# Altium schematic symbol library carrot_lib.SchLib: 176 symbols (part 3 of 3)
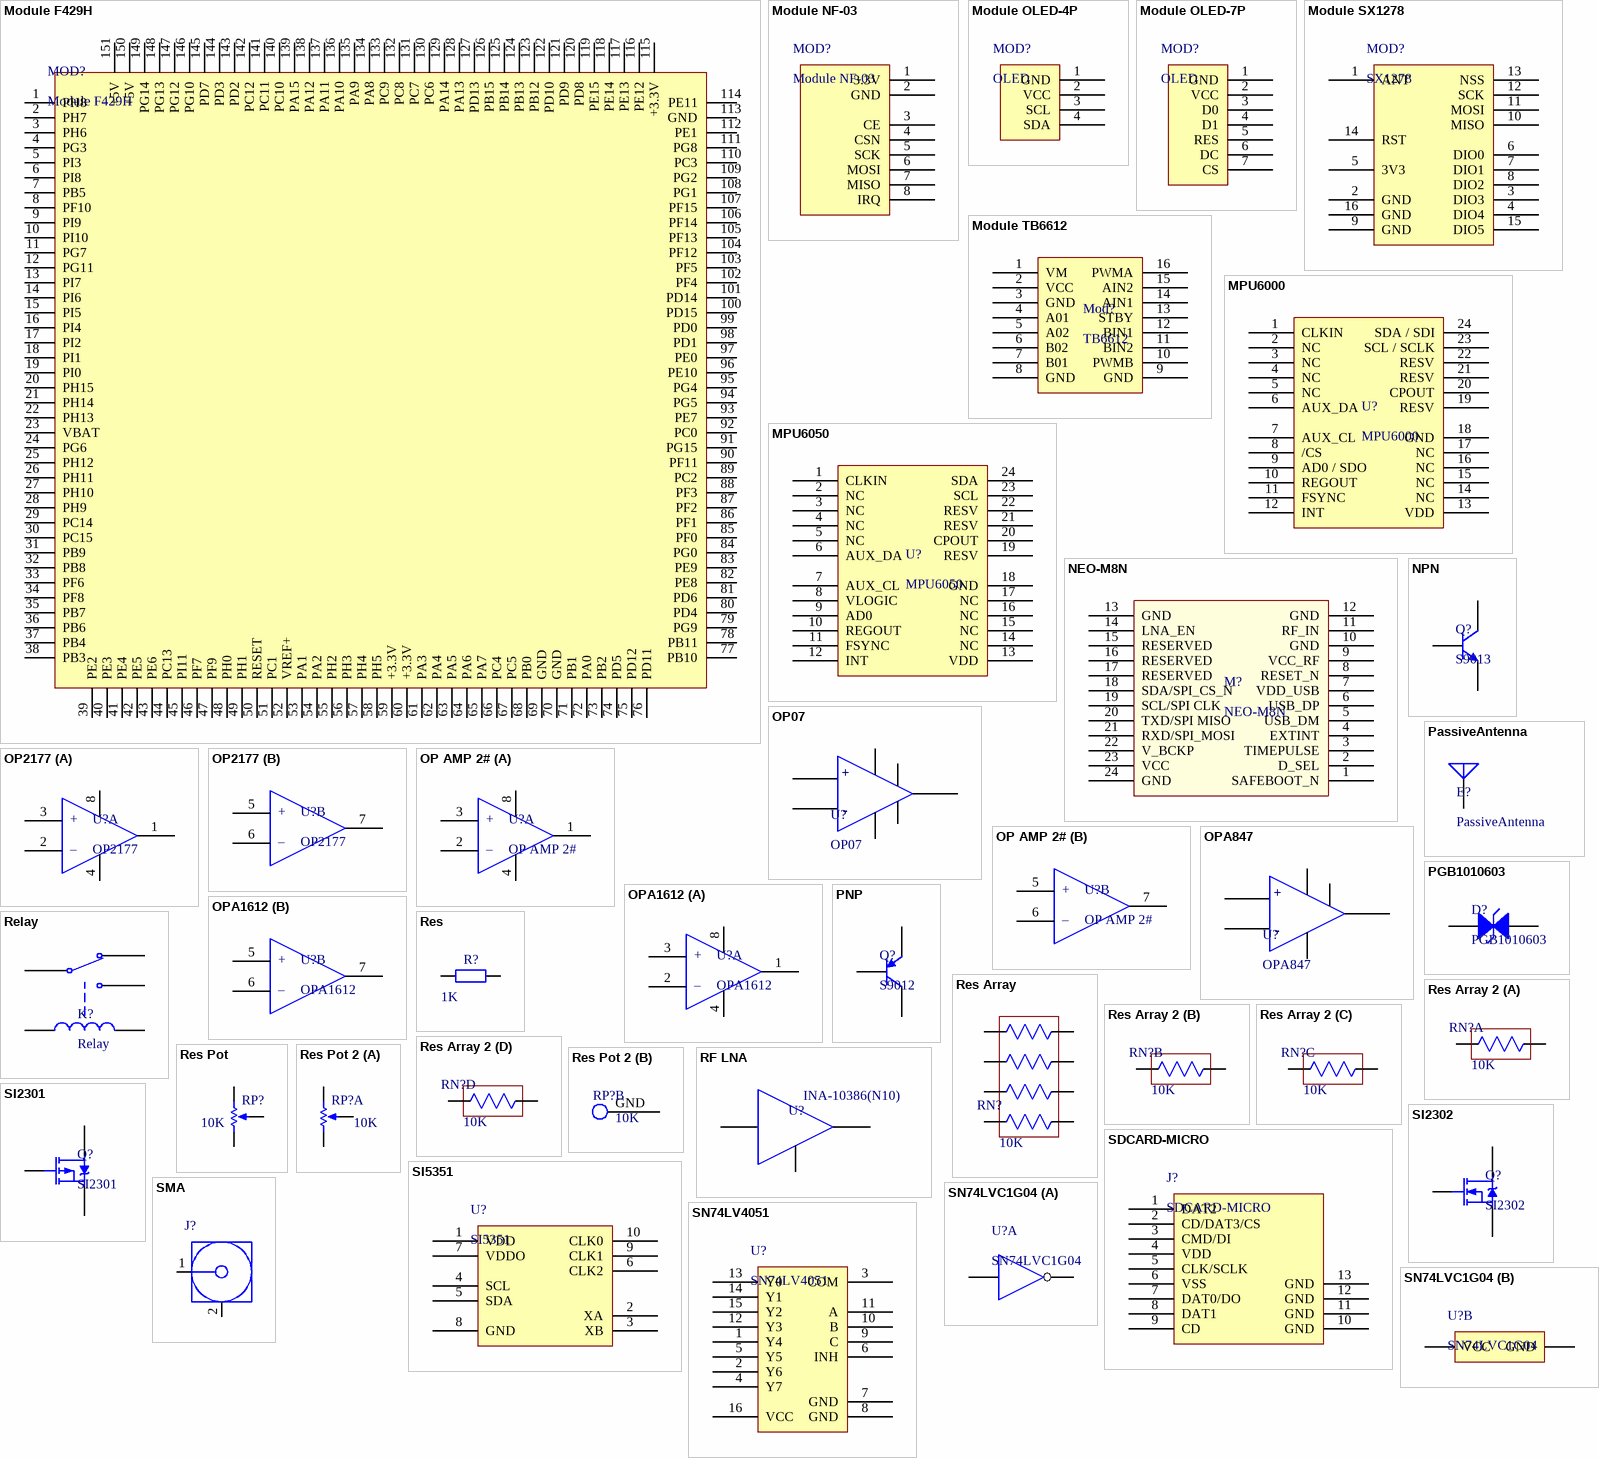
[diagram p12: symbols Module F429H to SN74LVC1G04]

## SI5351
designator U?
I2C-PROGRAMMABLE ANY-FREQUENCY CMOS CLOCK GENERATOR + VCXO.
footprint SI5351-MSOP10 (TSSOP, 10-Leads, Body 3.00x3.00mm, Pitch 0.50mm, IPC Medium Density)
pins: 1 VDD "Core voltage supply pin.", 2 XA "Input pin for external crystal.", 3 XB "Input pin for external crystal.", 4 SCL "Serial clock input for the I2C bus.", 5 SDA "Serial data input for the I2C bus.", 6 CLK2 "Output clock 2.", 7 VDDO "Output voltage supply pin for CLK0, CLK1, and CLK2.", 8 GND "Ground.", 9 CLK1 "Output clock 1.", 10 CLK0 "Output clock 0."

## SMA
designator J?  (value not drawn)
footprint SMA-1
footprint SMA-2
footprint SMA-3
pins: 1 Signal (power) "Signal Pin", 2 GND (power)

## SN74LV4051
designator U?
SN74LV4051A 8-Channel Analog Multiplexers and Demultiplexers
footprint SN74LV4051-TSSOP16 (TSOP, 16-Leads, Body 5.00x4.40mm, Pitch 0.65mm, IPC Medium Density)
pins: 1 Y4 "Input/Output to mux", 2 Y6 "Input/Output to mux", 3 COM "Output/Input of mux", 4 Y7 "Input/Output to mux", 5 Y5 "Input/Output to mux", 6 INH "Enables the outputs of the device. Logic low level with turn the outputs on, high level will turn them off.", 7 GND "Ground", 8 GND "Ground", 9 C "Selector line C for outputs", 10 B "Selector line B for outputs", 11 A "Selector line A for outputs", 12 Y3 "Input/Output to mux", 13 Y0 "Input/Output to mux", 14 Y1 "Input/Output to mux", 15 Y2 "Input/Output to mux", 16 VCC "Device power"

## SN74LVC1G04
designator U?
Single Inverter Gate
footprint SN74LVC1G04-SOT-23-5 (SOT23, 5-Leads, Body 2.90x2.80mm, Pitch 0.95mm, IPC Medium Density)
part A pins: 2 A "Input 1A", 4 Y "Output 1Y"
part B pins: 3 GND (power) "Ground Pin", 5 VCC (power) "Power Pin"

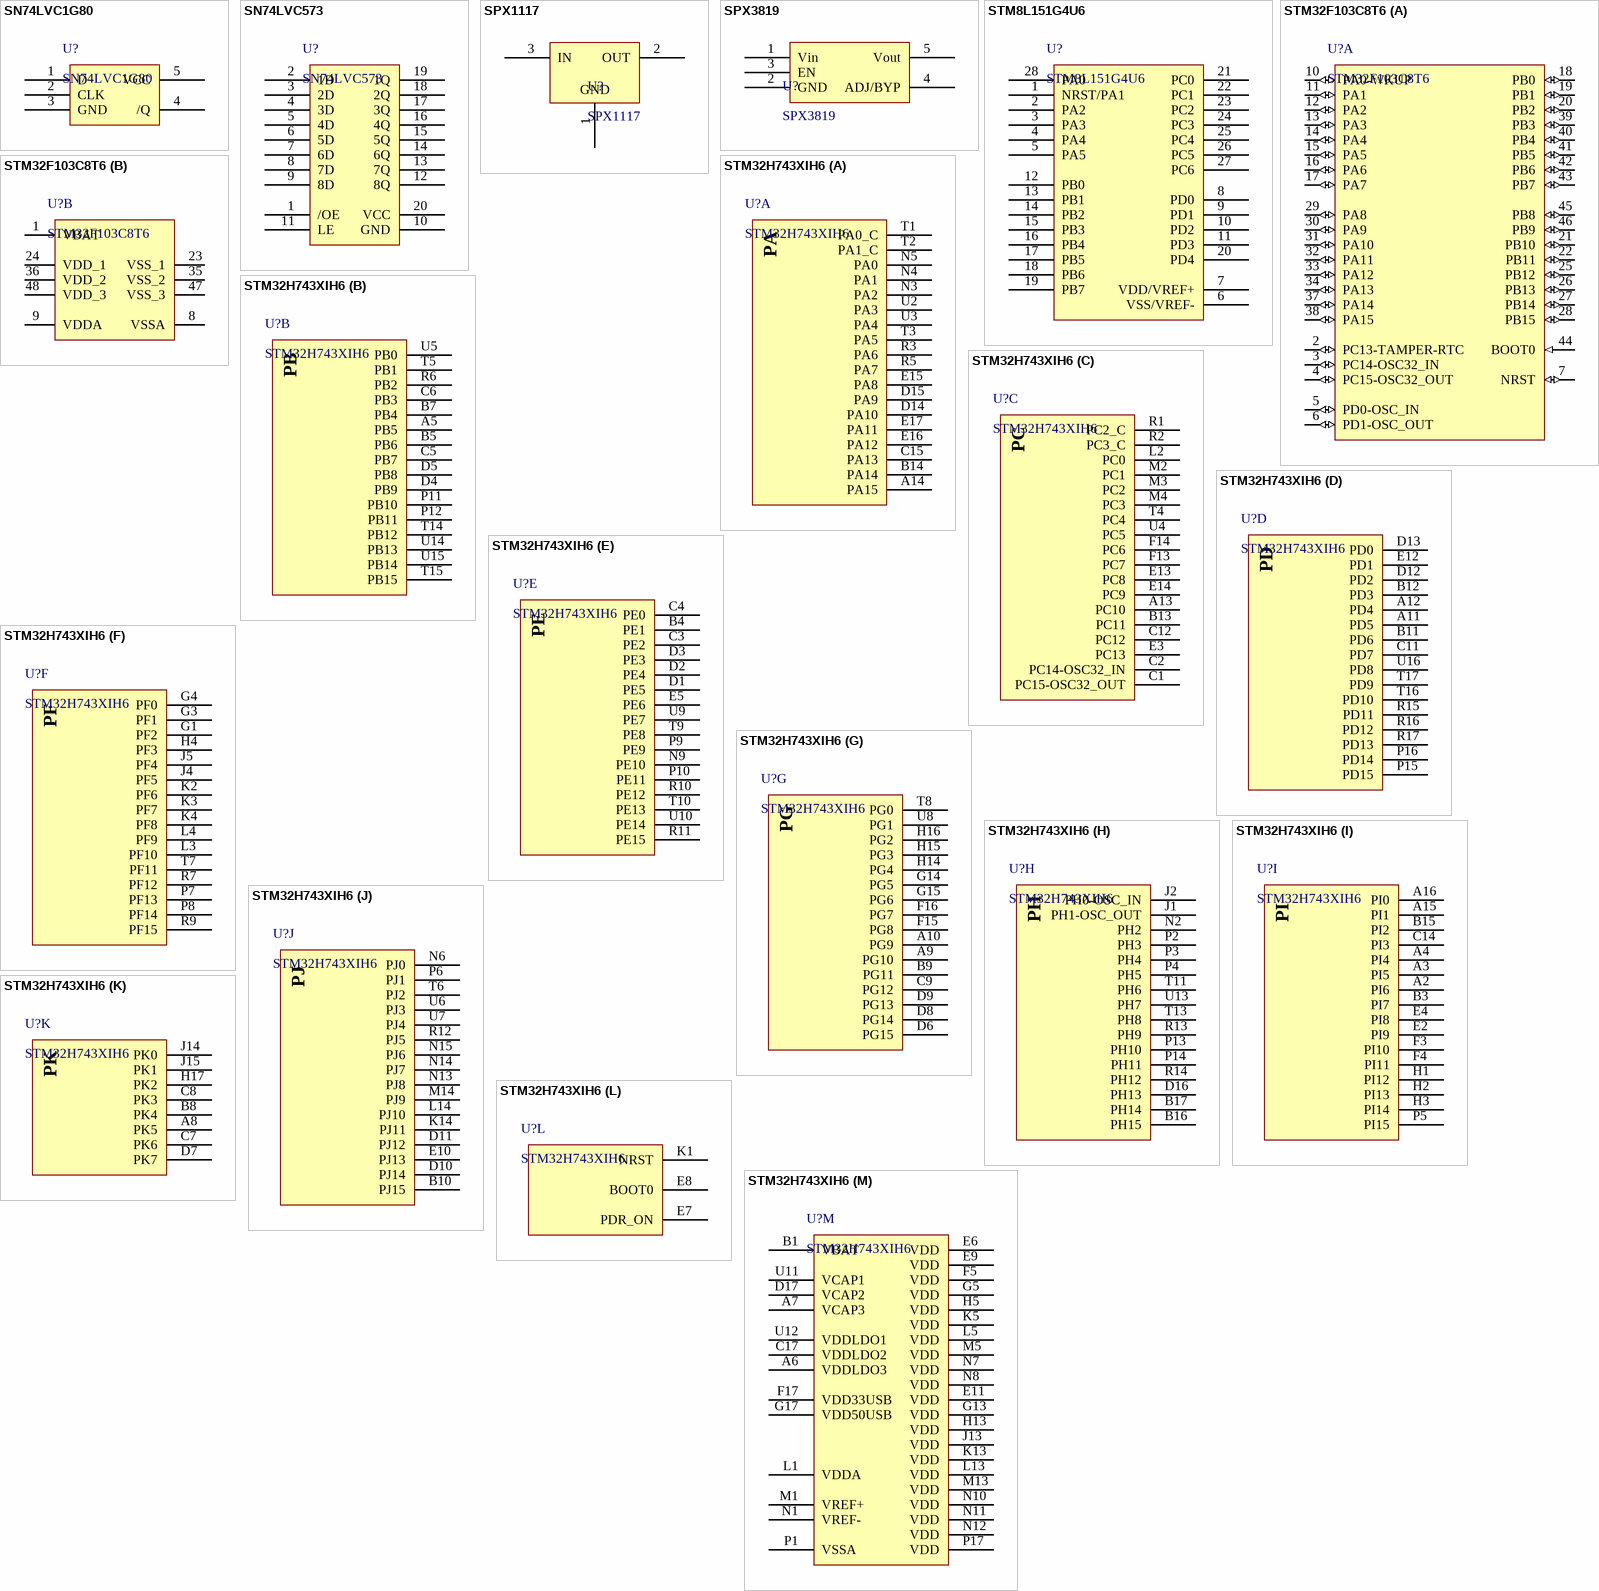
[diagram p8: symbols SN74LVC1G80 to STM32H743XIH6]

## SN74LVC1G80
designator U?
Single Positive-Edge-Triggered D-Type Flip-Flop
footprint SN74LVC1G80-SC70 (SOT23, 5-Leads, Body 2.00x2.10mm, Pitch 0.65mm, IPC Medium Density)
pins: 1 D "Data input", 2 CLK "Positive-Edge-Triggered Clock input", 3 GND "Ground pin", 4 /Q "Inverted output", 5 VCC "Positive Supply"

## SN74LVC573
designator U?
Octal Transparent D-Type Latches With 3-State Outputs
footprint SN74LVC573-TSSOP20 (TSOP, 20-Leads, Body 6.50x4.40mm, Pitch 0.65mm, IPC Medium Density)
pins: 1 /OE "Enable Pin", 2 1D "Input", 3 2D "Input", 4 3D "Input", 5 4D "Input", 6 5D "Input", 7 6D "Input", 8 7D "Input", 9 8D "Input", 10 GND "Ground", 11 LE "Latch Enable", 12 8Q "Output", 13 7Q "Output", 14 6Q "Output", 15 5Q "Output", 16 4Q "Output", 17 3Q "Output", 18 2Q "Output", 19 1Q "Output", 20 VCC "Power Pin"

## SPX1117
designator U?
800mA Low Dropout Voltage Regulator
footprint SPX1117-SOT223 (SOT-223)
pins: 1 GND, 2 OUT, 3 IN

## SPX3819
designator U?
500mA, Low-Noise LDO Voltage Regulator
footprint SPX3819-SOT-23-5 (SOT23, 5-Leads, Body 2.90x2.80mm, Pitch 0.95mm, IPC Medium Density)
pins: 1 Vin, 2 GND, 3 EN, 4 ADJ/BYP, 5 Vout

## STM8L151G4U6
designator U?
8-bit ultra-low-power MCU, up to 32 KB Flash, 1 KB Data EEPROM,RTC, LCD, timers, USART, I2C, SPI, ADC, DAC, comparators
footprint STM8L151G4U6-UFQFN28 (QFN, 28-Leads, Body 4.00x4.00mm, Pitch 0.50mm, IPC Medium Density)
pins: 1 NRST/PA1, 2 PA2, 3 PA3, 4 PA4, 5 PA5, 6 VSS/VREF-, 7 VDD/VREF+, 8 PD0, 9 PD1, 10 PD2, 11 PD3, 12 PB0, 13 PB1, 14 PB2, 15 PB3, 16 PB4, 17 PB5, 18 PB6, 19 PB7, 20 PD4, 21 PC0, 22 PC1, 23 PC2, 24 PC3, 25 PC4, 26 PC5, 27 PC6, 28 PA0

## STM32F103C8T6
designator U?
ARM Cortex-M3 32-bit MCU, 64 KB Flash, 20 KB Internal RAM, 37 I/Os, 48-pin LQFP, -40 to 85 degC, Tray; A/D Converter: 2x12-bit (10 Channel); FLASH Size (Prog) (kB): 64; I/Os (High Current): 37; Internal RAM Size (kB): 20; Operating Frequency(F) (Processor speed) (MHz): 72; Supply Voltage(Vcc) min (V): 2; DatasheetVersion: Rev. 16; PackageVersion: Rev. 6, 06/2013; PackageReference: LQFP48; PackageDescription: 48-Pin Low Profile Quad Flat Package, 7 x 7 mm Body, 0.5 mm Pitch; Supplier 1: Digi-Key; Supplier Part Number 1: 497-6063-ND; Supplier 2: Farnell; Supplier Part Number 2: 1447637; Supplier 3: Newark; Supplier Part Number 3: 59M2182; Supplier 4: Newark; Supplier Part Number 4: 57P1222; Supplier 5: Mouser; Supplier Part Number 5: 511-STM32F103C8T6; Core: ARM Cortex-M3; Packing: Tray; Mounting Technology: Surface Mount; PartNumber: STM32F103C8T6; ComponentLink1Description: Manufacturer URL; ComponentLink1URL: http://www.st.com/web/en/home.html; ComponentLink2Description: Datasheet; ComponentLink2URL: http://www.st.com/st-web-ui/static/active/en/resource/technical/document/datasheet/CD00161566.pdf; ComponentLink3Description: Package Specification; ComponentLink3URL: http://www.st.com/st-web-ui/static/active/en/resource/technical/document/datasheet/DM00058181.pdf
footprint STM32F103C8T6-LQFP48 (QFP, 48-Leads, Body 7x7mm, Pitch 0.5mm, IPC Medium Density)
footprint STM32F103C8T6-LQFP48+ (QFP, 48-Leads, Body 7x7mm, Pitch 0.5mm, IPC Medium Density)
part A pins: 2 PC13-TAMPER-RTC (io) "PC13-TAMPER-RTC/PC13/TAMPER-RTC", 3 PC14-OSC32_IN (io) "PC14-OSC32_IN/PC14/OSC32_IN", 4 PC15-OSC32_OUT (io) "PC15-OSC32_OUT/PC15/OSC32_OUT", 5 PD0-OSC_IN (io) "PD0/OSC_IN", 6 PD1-OSC_OUT (io) "PD1/OSC_OUT", 7 NRST (io), 10 PA0-WKUP (io) "PA0-WKUP/PA0/WKUP/USART2_CTS/ADC12_IN0/TIM2_CH1_ETR", 11 PA1 (io) "PA1/USART2_RTS/ADC12_IN1/TIM2_CH2", 12 PA2 (io) "PA2/USART2_TX/ADC12_IN2/TIM2_CH3", 13 PA3 (io) "PA3/USART2_RX/ADC12_IN3/TIM2_CH4", 14 PA4 (io) "PA4/SPI1_NSS/USART2_CK/ADC12_IN4", 15 PA5 (io) "PA5/SPI1_SCK/ADC12_IN5", 16 PA6 (io) "PA6/SPI1_MISO/ADC12_IN6/TIM3_CH1/TIM1_BKIN", 17 PA7 (io) "PA7/SPI1_MOSI/ADC12_IN7/TIM3_CH2/TIM1_CH1N", 18 PB0 (io) "PB0/ADC12_IN8/TIM3_CH3/TIM1_CH2N", 19 PB1 (io) "PB1/ADC12_IN9/TIM3_CH4/TIM1_CH3N", 20 PB2 (io) "PB2/BOOT1", 21 PB10 (io) "PB10/I2C2_SCL/USART3_TX/TIM2_CH3", 22 PB11 (io) "PB11/I2C2_SDA/USART3_RX/TIM2_CH4", 25 PB12 (io) "PB12/SPI2_NSS/I2C2_SMBAl/USART3_CK/TIM1_BKIN", 26 PB13 (io) "PB13/SPI2_SCK/USART3_CTS/TIM1_CH1N", 27 PB14 (io) "PB14/SPI2_MISO/USART3_RTS/TIM1_CH2N", 28 PB15 (io) "PB15/SPI2_MOSI/TIM1_CH3N", 29 PA8 (io) "PA8/USART1_CK/TIM1_CH1/MCO", 30 PA9 (io) "PA9/USART1_TX/TIM1_CH2", 31 PA10 (io) "PA10/USART1_RX/TIM1_CH3", 32 PA11 (io) "PA11/USART1_CTS/CANRX/USBDM/TIM1_CH4", 33 PA12 (io) "PA12/USART1_RTS/CANTX/USBDP/TIM1_ETR", 34 PA13 (io) "PA13/JTMS/SWDIO", 37 PA14 (io) "PA14/JTCK/SWCLK", 38 PA15 (io) "PA15/JTDI/TIM2_CH1_ETR/SPI1_NSS", 39 PB3 (io) "PB3/JTDO/TIM2_CH2/TRACESWO/SPI1_SCK", 40 PB4 (io) "PB4/NJTRST/TIM3_CH1/SPI1_MISO", 41 PB5 (io) "PB5/I2C1_SMBAI/TIM3_CH2/SPI1_MOSI", 42 PB6 (io) "PB6/I2C1_SCL/TIM4_CH1/USART1_TX", 43 PB7 (io) "PB7/I2C1_SDA/TIM4_CH2/USART1_RX", 44 BOOT0 (in), 45 PB8 (io) "PB8/TIM4_CH3/I2C1_SCL/CANRX", 46 PB9 (io) "PB9/TIM4_CH4/I2C1_SDA/CANTX"
part B pins: 1 VBAT (power), 8 VSSA (power), 9 VDDA (power), 23 VSS_1 (power), 24 VDD_1 (power), 35 VSS_2 (power), 36 VDD_2 (power), 47 VSS_3 (power), 48 VDD_3 (power)

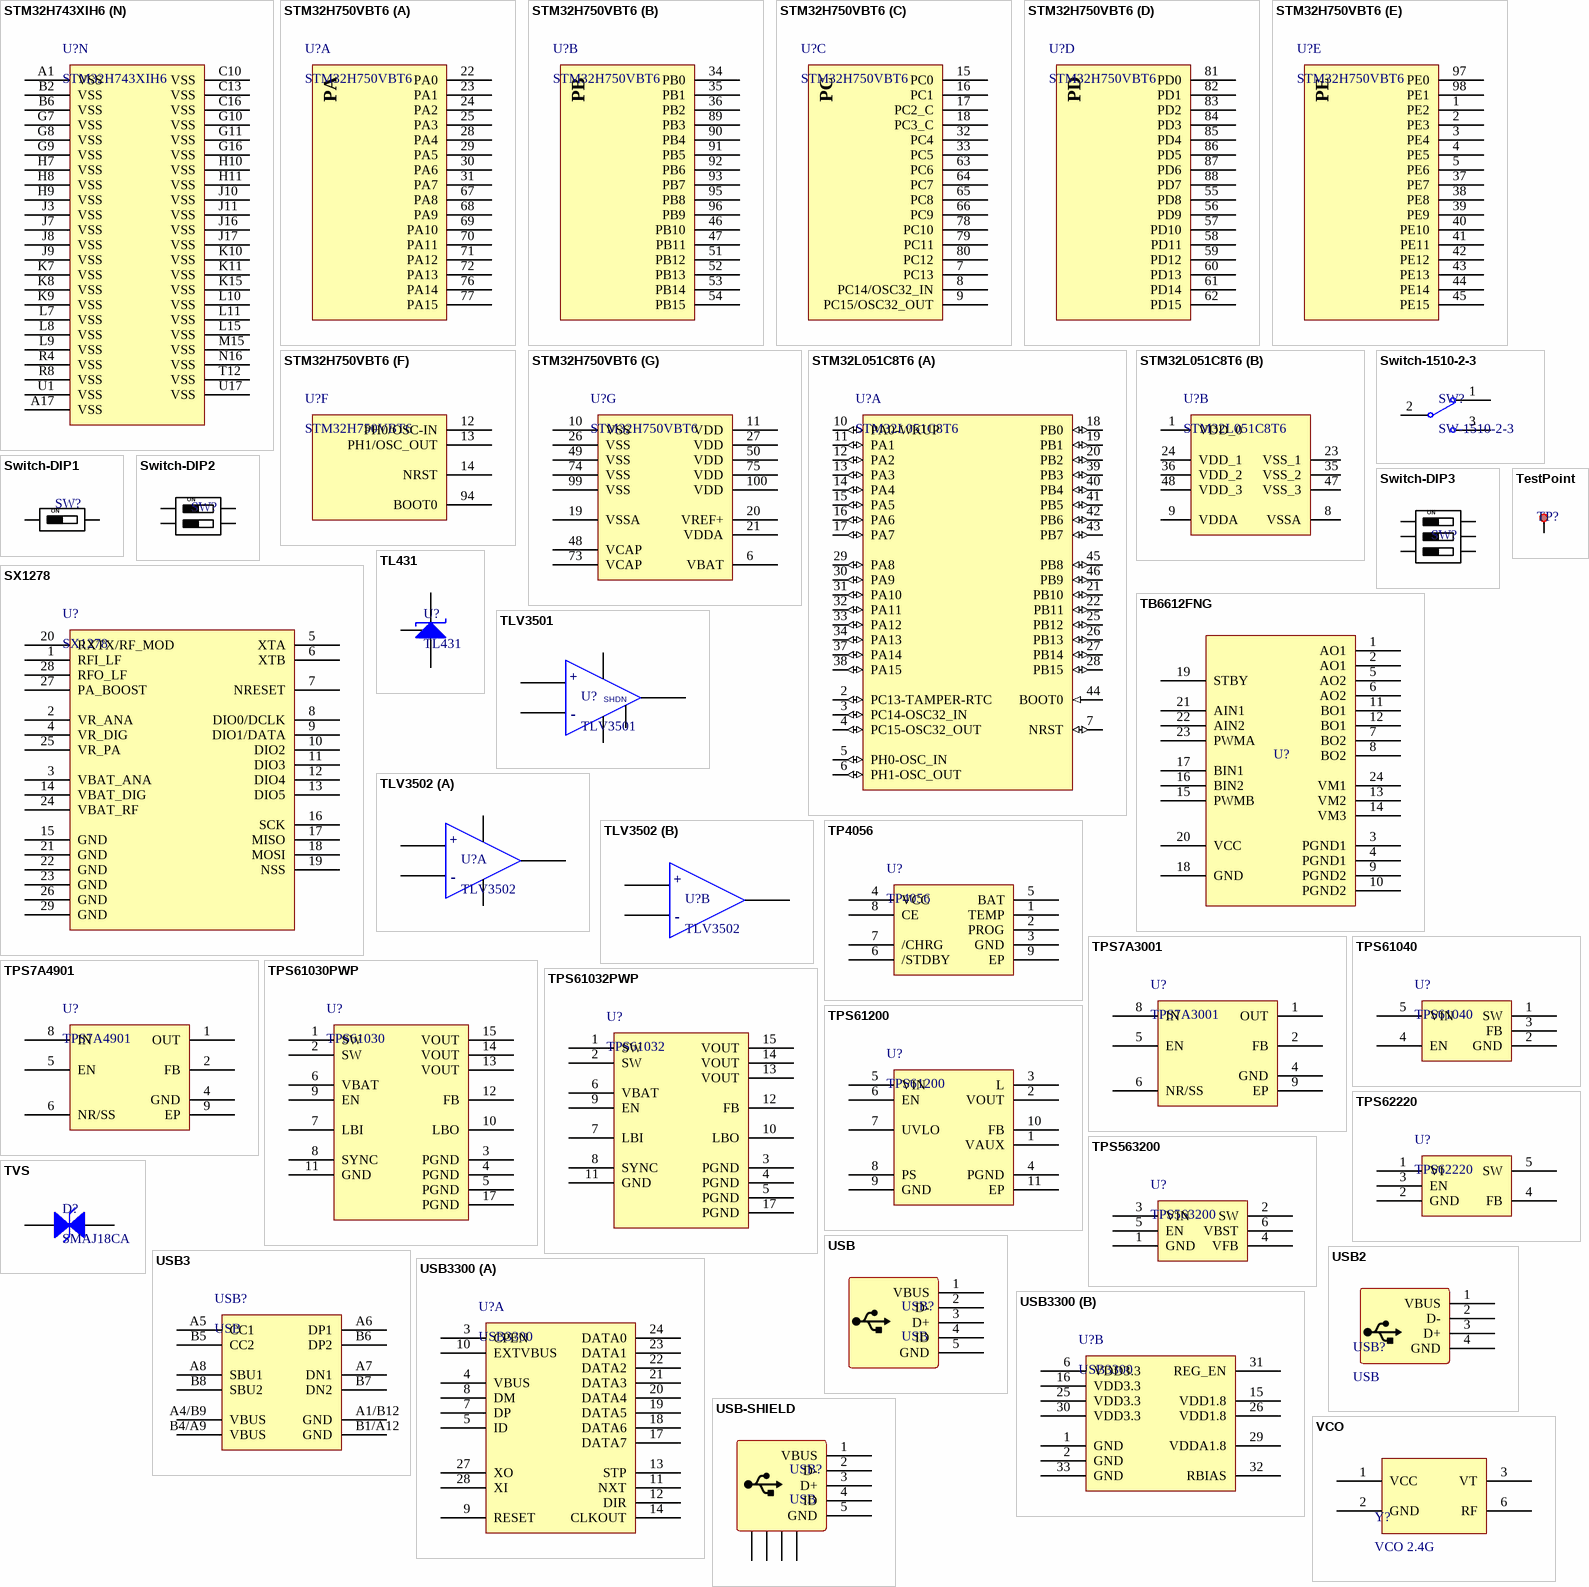
[diagram p9: symbols STM32H743XIH6 to VCO]

## STM32H743XIH6
designator U?
32-bit Arm® Cortex®-M7 480MHz MCUs, up to 2MB Flash,up to 1MB RAM, 46 com. and analog interfaces
footprint STM32H743XIH6-TFBGA240+25
part A pins: A14 PA15, B14 PA14, C15 PA13, D14 PA10, D15 PA9, E15 PA8, E16 PA12, E17 PA11, N3 PA2, N4 PA1, N5 PA0, R3 PA6, R5 PA7, T1 PA0_C, T2 PA1_C, T3 PA5, U2 PA3, U3 PA4
part B pins: A5 PB5, B5 PB6, B7 PB4, C5 PB7, C6 PB3, D4 PB9, D5 PB8, P11 PB10, P12 PB11, R6 PB2, T5 PB1, T14 PB12, T15 PB15, U5 PB0, U14 PB13, U15 PB14
part C pins: A13 PC10, B13 PC11, C1 PC15-OSC32_OUT, C2 PC14-OSC32_IN, C12 PC12, E3 PC13, E13 PC8, E14 PC9, F13 PC7, F14 PC6, L2 PC0, M2 PC1, M3 PC2, M4 PC3, R1 PC2_C, R2 PC3_C, T4 PC4, U4 PC5
part D pins: A11 PD5, A12 PD4, B11 PD6, B12 PD3, C11 PD7, D12 PD2, D13 PD0, E12 PD1, P15 PD15, P16 PD14, R15 PD11, R16 PD12, R17 PD13, T16 PD10, T17 PD9, U16 PD8
part E pins: B4 PE1, C3 PE2, C4 PE0, D1 PE5, D2 PE4, D3 PE3, E5 PE6, N9 PE10, P9 PE9, P10 PE11, R10 PE12, R11 PE15, T9 PE8, T10 PE13, U9 PE7, U10 PE14
part F pins: G1 PF2, G3 PF1, G4 PF0, H4 PF3, J4 PF5, J5 PF4, K2 PF6, K3 PF7, K4 PF8, L3 PF10, L4 PF9, P7 PF13, P8 PF14, R7 PF12, R9 PF15, T7 PF11
part G pins: A9 PG10, A10 PG9, B9 PG11, C9 PG12, D6 PG15, D8 PG14, D9 PG13, F15 PG8, F16 PG7, G14 PG5, G15 PG6, H14 PG4, H15 PG3, H16 PG2, T8 PG0, U8 PG1
part H pins: B16 PH15, B17 PH14, D16 PH13, J1 PH1-OSC_OUT, J2 PH0-OSC_IN, N2 PH2, P2 PH3, P3 PH4, P4 PH5, P13 PH10, P14 PH11, R13 PH9, R14 PH12, T11 PH6, T13 PH8, U13 PH7
part I pins: A2 PI6, A3 PI5, A4 PI4, A15 PI1, A16 PI0, B3 PI7, B15 PI2, C14 PI3, E2 PI9, E4 PI8, F3 PI10, F4 PI11, H1 PI12, H2 PI13, H3 PI14, P5 PI15
part J pins: B10 PJ15, D10 PJ14, D11 PJ12, E10 PJ13, K14 PJ11, L14 PJ10, M14 PJ9, N6 PJ0, N13 PJ8, N14 PJ7, N15 PJ6, P6 PJ1, R12 PJ5, T6 PJ2, U6 PJ3, U7 PJ4
part K pins: A8 PK5, B8 PK4, C7 PK6, C8 PK3, D7 PK7, H17 PK2, J14 PK0, J15 PK1
part L pins: E7 PDR_ON, E8 BOOT0, K1 NRST
part M pins: A6 VDDLDO3 (power), A7 VCAP3, B1 VBAT (power), C17 VDDLDO2 (power), D17 VCAP2, E6 VDD (power), E9 VDD (power), E11 VDD (power), F5 VDD (power), F17 VDD33USB (power), G5 VDD (power), G13 VDD (power), G17 VDD50USB (power), H5 VDD (power), H13 VDD (power), J13 VDD (power), K5 VDD (power), K13 VDD (power), L1 VDDA (power), L5 VDD (power), L13 VDD (power), M1 VREF+ (power), M5 VDD (power), M13 VDD (power), N1 VREF- (power), N7 VDD (power), N8 VDD (power), N10 VDD (power), N11 VDD (power), N12 VDD (power), P1 VSSA (power), P17 VDD (power), U11 VCAP1, U12 VDDLDO1 (power)
part N pins: A1 VSS (power), A17 VSS (power), B2 VSS (power), B6 VSS (power), C10 VSS (power), C13 VSS (power), C16 VSS (power), G7 VSS (power), G8 VSS (power), G9 VSS (power), G10 VSS (power), G11 VSS (power), G16 VSS (power), H7 VSS (power), H8 VSS (power), H9 VSS (power), H10 VSS (power), H11 VSS (power), J3 VSS (power), J7 VSS (power), J8 VSS (power), J9 VSS (power), J10 VSS (power), J11 VSS (power), J16 VSS (power), J17 VSS (power), K7 VSS (power), K8 VSS (power), K9 VSS (power), K10 VSS (power), K11 VSS (power), K15 VSS (power), L7 VSS (power), L8 VSS (power), L9 VSS (power), L10 VSS (power), L11 VSS (power), L15 VSS (power), M15 VSS (power), N16 VSS (power), R4 VSS (power), R8 VSS (power), T12 VSS (power), U1 VSS (power), U17 VSS (power)
part A text: PA
part B text: PB
part C text: PC
part D text: PD
part E text: PE
part F text: PF
part G text: PG
part H text: PH
part I text: PI
part J text: PJ
part K text: PK

## STM32H750VBT6
designator U?
High-performance and DSP with DP-FPU, Arm Cortex-M7 MCU with 128 Kbytes of Flash memory, 1MB RAM, 480 MHz CPU, L1 cache, external memory interface, JPEG codec, HW crypto, large set of peripherals
footprint STM32H750VBT6-LQFP100 (TSQFP, 100-Leads, Body 14.00x14.00mm, Pitch 0.50mm, IPC Medium Density)
part A pins: 22 PA0, 23 PA1, 24 PA2, 25 PA3, 28 PA4, 29 PA5, 30 PA6, 31 PA7, 67 PA8, 68 PA9, 69 PA10, 70 PA11, 71 PA12, 72 PA13, 76 PA14, 77 PA15
part B pins: 34 PB0, 35 PB1, 36 PB2, 46 PB10, 47 PB11, 51 PB12, 52 PB13, 53 PB14, 54 PB15, 89 PB3, 90 PB4, 91 PB5, 92 PB6, 93 PB7, 95 PB8, 96 PB9
part C pins: 7 PC13, 8 PC14/OSC32_IN, 9 PC15/OSC32_OUT, 15 PC0, 16 PC1, 17 PC2_C, 18 PC3_C, 32 PC4, 33 PC5, 63 PC6, 64 PC7, 65 PC8, 66 PC9, 78 PC10, 79 PC11, 80 PC12
part D pins: 55 PD8, 56 PD9, 57 PD10, 58 PD11, 59 PD12, 60 PD13, 61 PD14, 62 PD15, 81 PD0, 82 PD1, 83 PD2, 84 PD3, 85 PD4, 86 PD5, 87 PD6, 88 PD7
part E pins: 1 PE2, 2 PE3, 3 PE4, 4 PE5, 5 PE6, 37 PE7, 38 PE8, 39 PE9, 40 PE10, 41 PE11, 42 PE12, 43 PE13, 44 PE14, 45 PE15, 97 PE0, 98 PE1
part F pins: 12 PH0/OSC-IN, 13 PH1/OSC_OUT, 14 NRST, 94 BOOT0
part G pins: 6 VBAT, 10 VSS, 11 VDD, 19 VSSA, 20 VREF+, 21 VDDA, 26 VSS, 27 VDD, 48 VCAP, 49 VSS, 50 VDD, 73 VCAP, 74 VSS, 75 VDD, 99 VSS, 100 VDD
part A text: PA
part B text: PB
part C text: PC
part D text: PD
part E text: PE

## STM32L051C8T6
designator U?
Access line ultra-low-power 32-bit MCU Arm®-based Cortex®-M0+,up to 64 KB Flash, 8 KB SRAM, 2 KB EEPROM, ADC
footprint STM32L051C8T6-LQFP48 (TSQFP, 48-Leads, Body 7.00x7.00mm, Pitch 0.50mm, IPC Medium Density)
part A pins: 2 PC13-TAMPER-RTC (io) "PC13-TAMPER-RTC/PC13/TAMPER-RTC", 3 PC14-OSC32_IN (io) "PC14-OSC32_IN/PC14/OSC32_IN", 4 PC15-OSC32_OUT (io) "PC15-OSC32_OUT/PC15/OSC32_OUT", 5 PH0-OSC_IN (io) "PH0/OSC_IN", 6 PH1-OSC_OUT (io) "PH1/OSC_OUT", 7 NRST (io), 10 PA0-WKUP (io) "PA0-WKUP/PA0/WKUP/USART2_CTS/ADC12_IN0/TIM2_CH1_ETR", 11 PA1 (io) "PA1/USART2_RTS/ADC12_IN1/TIM2_CH2", 12 PA2 (io) "PA2/USART2_TX/ADC12_IN2/TIM2_CH3", 13 PA3 (io) "PA3/USART2_RX/ADC12_IN3/TIM2_CH4", 14 PA4 (io) "PA4/SPI1_NSS/USART2_CK/ADC12_IN4", 15 PA5 (io) "PA5/SPI1_SCK/ADC12_IN5", 16 PA6 (io) "PA6/SPI1_MISO/ADC12_IN6/TIM3_CH1/TIM1_BKIN", 17 PA7 (io) "PA7/SPI1_MOSI/ADC12_IN7/TIM3_CH2/TIM1_CH1N", 18 PB0 (io) "PB0/ADC12_IN8/TIM3_CH3/TIM1_CH2N", 19 PB1 (io) "PB1/ADC12_IN9/TIM3_CH4/TIM1_CH3N", 20 PB2 (io) "PB2/BOOT1", 21 PB10 (io) "PB10/I2C2_SCL/USART3_TX/TIM2_CH3", 22 PB11 (io) "PB11/I2C2_SDA/USART3_RX/TIM2_CH4", 25 PB12 (io) "PB12/SPI2_NSS/I2C2_SMBAl/USART3_CK/TIM1_BKIN", 26 PB13 (io) "PB13/SPI2_SCK/USART3_CTS/TIM1_CH1N", 27 PB14 (io) "PB14/SPI2_MISO/USART3_RTS/TIM1_CH2N", 28 PB15 (io) "PB15/SPI2_MOSI/TIM1_CH3N", 29 PA8 (io) "PA8/USART1_CK/TIM1_CH1/MCO", 30 PA9 (io) "PA9/USART1_TX/TIM1_CH2", 31 PA10 (io) "PA10/USART1_RX/TIM1_CH3", 32 PA11 (io) "PA11/USART1_CTS/CANRX/USBDM/TIM1_CH4", 33 PA12 (io) "PA12/USART1_RTS/CANTX/USBDP/TIM1_ETR", 34 PA13 (io) "PA13/JTMS/SWDIO", 37 PA14 (io) "PA14/JTCK/SWCLK", 38 PA15 (io) "PA15/JTDI/TIM2_CH1_ETR/SPI1_NSS", 39 PB3 (io) "PB3/JTDO/TIM2_CH2/TRACESWO/SPI1_SCK", 40 PB4 (io) "PB4/NJTRST/TIM3_CH1/SPI1_MISO", 41 PB5 (io) "PB5/I2C1_SMBAI/TIM3_CH2/SPI1_MOSI", 42 PB6 (io) "PB6/I2C1_SCL/TIM4_CH1/USART1_TX", 43 PB7 (io) "PB7/I2C1_SDA/TIM4_CH2/USART1_RX", 44 BOOT0 (in), 45 PB8 (io) "PB8/TIM4_CH3/I2C1_SCL/CANRX", 46 PB9 (io) "PB9/TIM4_CH4/I2C1_SDA/CANTX"
part B pins: 1 VDD_0 (power), 8 VSSA (power), 9 VDDA (power), 23 VSS_1 (power), 24 VDD_1 (power), 35 VSS_2 (power), 36 VDD_2 (power), 47 VSS_3 (power), 48 VDD_3 (power)

## Switch-1510-2-3
designator SW?, comment SW-1510-2-3
船型开关, 15*10mm, 2档3脚
footprint SW-1510-2-3 (船型开关, 15*10mm, 2档3脚)
pins: 1, 2, 3

## Switch-DIP1
designator SW?, comment SW-DIP1  (value not drawn)
footprint SW-DIP1
pins: 1, 2
text: ON

## Switch-DIP2
designator SW?, comment SW-DIP2  (value not drawn)
footprint SW-SMT2-2.54
pins: 1, 2, 3, 4
text: ON

## Switch-DIP3
designator SW?, comment SW-DIP3  (value not drawn)
footprint SW-SMT3-1.27 (SOIC, 6-Leads, Body 5.41x5.40mm, Pitch 1.27mm, IPC Medium Density)
pins: 1, 2, 3, 4, 5, 6
text: ON

## SX1278
designator U?
Low Power Long Range Transceiver
footprint SX1278-QFN28 (QFN, 28-Leads, Body 6.00x6.00mm, Pitch 0.65mm, Thermal Pad 4.78x4.78mm, IPC Medium Density)
pins: 1 RFI_LF "RF input for bands 2&3", 2 VR_ANA "Regulated supply voltage for analogue circuitry", 3 VBAT_ANA "Supply voltage for analogue circuitry", 4 VR_DIG "Regulated supply voltage for digital blocks", 5 XTA "XTAL connection or TCXO input", 6 XTB "XTAL connection", 7 NRESET "Reset trigger input", 8 DIO0/DCLK "Digital I/O, software configured", 9 DIO1/DATA "Digital I/O, software configured", 10 DIO2 "Digital I/O, software configured", 11 DIO3 "Digital I/O, software configured", 12 DIO4 "Digital I/O, software configured", 13 DIO5 "Digital I/O, software configured", 14 VBAT_DIG "Supply voltage for digital blocks", 15 GND "Ground", 16 SCK "SPI Clock input", 17 MISO "SPI Data output", 18 MOSI "SPI Data input", 19 NSS "SPI Chip select input", 20 RXTX/RF_MOD "Rx/Tx switch control: high in Tx", 21 GND "Ground", 22 GND "Ground", 23 GND "Ground", 24 VBAT_RF "Supply voltage for RF blocks", 25 VR_PA "Regulated supply for the PA", 26 GND "Ground", 27 PA_BOOST "Optional high-power PA output, all frequency bands", 28 RFO_LF "RF output for bands 2&3", 29 GND "Exposed ground pad"

## TB6612FNG
designator U?  (value not drawn)
Driver IC for Dual DC motor
footprint TB6612FNG-SSOP24 (TSOP, 24-Leads, Body 7.80x5.60mm, Pitch 0.65mm, IPC Medium Density)
pins: 1 AO1 "ch A output 1", 2 AO1 "ch A output 1", 3 PGND1 "Power GND 1", 4 PGND1 "Power GND 1", 5 AO2 "ch A output 2", 6 AO2 "ch A output 2", 7 BO2 "ch B output 2", 8 BO2 "ch B output 2", 9 PGND2 "Power GND 2", 10 PGND2 "Power GND 2", 11 BO1 "ch B output 1", 12 BO1 "ch B output 1", 13 VM2 "Motor supply", 14 VM3 "Motor supply", 15 PWMB "ch B PWM input/200 kΩ pull-down at internal", 16 BIN2 "ch B input 2/200 kΩ pull-down at internal", 17 BIN1 "ch B input 1/200 kΩ pull-down at internal", 18 GND "Small signal GND", 19 STBY "“L” = standby/200 kΩ pull-down at internal", 20 VCC "Small signal supply", 21 AIN1 "ch A input 1/200 kΩ pull-down at internal", 22 AIN2 "ch A input 2/200 kΩ pull-down at internal", 23 PWMA "ch A PWM input/200 kΩ pull-down at internal", 24 VM1 "Motor supply"

## TestPoint
designator TP?  (value not drawn)
测试点
footprint TestPoint-HDR1
footprint TestPoint-SMD30
footprint TestPoint-SMD50
footprint TestPoint-SMD75
footprint TestPoint-SMD100
footprint TestPoint-THM1.0-L
footprint TestPoint-THM1.6-H
footprint TestPoint-THM1.6-M
pins: 1

## TL431
designator U?
精密可编程基准
footprint TL431-SOIC-8 (SOIC, 8-Leads, Body 4.90x3.90mm, Pitch 1.27mm, IPC Medium Density)
pins: 1 Cathode, 2 Anode, 8 Ref

## TLV3501
designator U?
TLV350x 4.5-ns, Rail-to-Rail, High-Speed Comparator in Microsize Packages
footprint TLV3501-SOIC-8
pins: 2 -IN, 3 +IN, 4 V-, 6 OUT, 7 V+, 8 SHDN
text: +; -

## TLV3502
designator U?
TLV350x 4.5-ns, Rail-to-Rail, High-Speed Comparator in Microsize Packages
footprint TLV3502-SOIC-8
part A pins: 1 +IN A, 2 -IN A, 5 V-, 7 OUT A, 8 V+
part B pins: 3 +IN B, 4 -IN B, 6 OUT B
part A text: +; -
part B text: +; -

## TP4056
designator U?
1A 线性锂离子电池充电器
footprint TP4056-SOIC8 (SOIC, 8-Leads, Body 4.90x3.90mm, Pitch 1.27mm, Thermal Pad 3.41x2.52mm, IPC Medium Density)
pins: 1 TEMP, 2 PROG, 3 GND, 4 VCC, 5 BAT, 6 /STDBY, 7 /CHRG, 8 CE, 9 EP

## TPS7A3001
designator U?
TPS7A30 –35-V, –200-mA, Ultralow-Noise, Negative Linear Regulator
footprint TPS7A3001-HVSSOP8 (TSOP, 8-Leads, Body 3.00x3.00mm, Pitch 0.65mm, Thermal Pad 1.89x1.57mm, IPC Medium Density)
pins: 1 OUT "Regulator output.", 2 FB "This pin is the input to the error amplifier.", 4 GND "Ground", 5 EN "This pin turns the regulator on or off.", 6 NR/SS "Noise-reduction pin.", 8 IN "Input supply", 9 EP "PowerPAD"

## TPS7A4901
designator U?
TPS7A49 36-V, 150-mA, Ultralow-Noise, Positive Linear Regulator
footprint TPS7A4901-HVSSOP8 (TSOP, 8-Leads, Body 3.00x3.00mm, Pitch 0.65mm, Thermal Pad 1.89x1.57mm, IPC Medium Density)
pins: 1 OUT "Regulator output.", 2 FB "This pin is the input to the error amplifier.", 4 GND "Ground", 5 EN "This pin turns the regulator on or off.", 6 NR/SS "Noise-reduction pin.", 8 IN "Input supply", 9 EP "PowerPAD"

## TPS61030PWP
designator U?, comment TPS61030
TPS6103x 96% Efficient Synchronous Boost Converter With 4A Switch
footprint TPS61030-TSSOP16 (TSOP, 16-Leads, Body 5.00x4.40mm, Pitch 0.65mm, Thermal Pad 2.31x2.46mm, IPC Medium Density)
pins: 1 SW "Boost and rectifying switch input", 2 SW "Boost and rectifying switch input", 3 PGND "Power ground", 4 PGND "Power ground", 5 PGND "Power ground", 6 VBAT "Supply voltage", 7 LBI "Low battery comparator input (comparator enabled with EN)", 8 SYNC "Enable/disable power save mode (1/VBAT disabled, 0/GND enabled, clock signal for synchronization)", 9 EN "Enable input. (1/VBAT enabled, 0/GND disabled)", 10 LBO "Low battery comparator output (open drain)", 11 GND "Control/logic ground", 12 FB "Voltage feedback of adjustable versions", 13 VOUT "DC/DC output", 14 VOUT "DC/DC output", 15 VOUT "DC/DC output", 17 PGND "Must be soldered to achieve appropriate power dissipation. Should be connected to PGND."

## TPS61032PWP
designator U?, comment TPS61032
TPS6103x 96% Efficient Synchronous Boost Converter With 4A Switch
footprint TPS61030-TSSOP16 (TSOP, 16-Leads, Body 5.00x4.40mm, Pitch 0.65mm, Thermal Pad 2.31x2.46mm, IPC Medium Density)
pins: 1 SW "Boost and rectifying switch input", 2 SW "Boost and rectifying switch input", 3 PGND "Power ground", 4 PGND "Power ground", 5 PGND "Power ground", 6 VBAT "Supply voltage", 7 LBI "Low battery comparator input (comparator enabled with EN)", 8 SYNC "Enable/disable power save mode (1/VBAT disabled, 0/GND enabled, clock signal for synchronization)", 9 EN "Enable input. (1/VBAT enabled, 0/GND disabled)", 10 LBO "Low battery comparator output (open drain)", 11 GND "Control/logic ground", 12 FB "Voltage feedback of adjustable versions", 13 VOUT "DC/DC output", 14 VOUT "DC/DC output", 15 VOUT "DC/DC output", 17 PGND "Must be soldered to achieve appropriate power dissipation. Should be connected to PGND."

## TPS61040
designator U?
TPS6104x Low-Power DC-DC Boost Converter in SOT-23 and WSON Packages
footprint TPS61040-SOT23-5 (SOT23, 5-Leads, Body 2.90x2.80mm, Pitch 0.95mm, IPC Medium Density)
pins: 1 SW "Connect the inductor and the Schottky diode to this pin.", 2 GND "Ground", 3 FB "This is the feedback pin of the device.", 4 EN "This is the enable pin of the device.", 5 VIN "Supply voltage pin."

## TPS61200
designator U?
TPS61200x Low Input Voltage Synchronous Boost Converter With 1.3-A Switches
footprint TPS61200-VSON10 (SON, 10-Leads, Body 3.00x3.00mm, Pitch 0.50mm, Thermal Pad 2.40x1.49mm, IPC Medium Density)
pins: 1 VAUX "Supply voltage for control stage", 2 VOUT "Boost converter output", 3 L "Connection for Inductor", 4 PGND "Power ground", 5 VIN "Boost converter input voltage", 6 EN "Enable input (High = enabled, Low = disabled). Do not leave floating.", 7 UVLO "Undervoltage lockout comparator input. Must be connected to VAUX if not used", 8 PS "Enable/disable Power Save mode (High = disabled, Low = enabled). Do not leave floating.", 9 GND "Control / logic ground", 10 FB "Voltage feedback of adjustable versions, must be connected to VOUT at fixed output voltage versions", 11 EP "Must be soldered to achieve appropriate power dissipation and mechanical reliability. Should be connected to PGND."

## TPS62220
designator U?
400-mA, 1.25-MHz, HIGH-EFFICIENCY, STEP-DOWN CONVERTER IN THIN-SOT23
footprint TPS62220-SOT23-5 (SOT23, 5-Leads, Body 2.90x2.80mm, Pitch 0.95mm, IPC Medium Density)
pins: 1 VI "Supply voltage pin", 2 GND "Ground", 3 EN "This is the enable pin of the device. Pulling this pin to ground forces the device into shutdown mode. Pulling this pin to Vin enables the device. This pin must be terminated.", 4 FB "This is the feedback pin of the device. Connect this pin directly to the output if the fixed output voltage version is used. For the adjustable version, an external resistor divider is connected to this pin. The internal voltage divider is disabled for the adjustable version.", 5 SW "Connect the inductor to this pin. This pin is the switch pin and is connected to the internal MOSFET switches."

## TPS563200
designator U?
4.5-V To 17-V Input, 3-A Synchronous Step-Down Voltage Regulator In 6 Pin SOT-23.
footprint TPS563200-SOT23-6 (SOT23, 6-Leads, Body 2.90x2.80mm, Pitch 0.95mm, IPC Medium Density)
pins: 1 GND "Ground pin Source terminal of low-side power NFET as well as the ground terminal for controller circuit.", 2 SW "Switch node connection between high-side NFET and low-side NFET.", 3 VIN "Input voltage supply pin. The drain terminal of high-side power NFET.", 4 VFB "Converter feedback input. Connect to output voltage with feedback resistor divider.", 5 EN "Enable input control. Active high and must be pulled up to enable the device.", 6 VBST "Supply input for the high-side NFET gate drive circuit. Connect a 0.1μF capacitor between VBST and SW pins."

## TVS
designator D?, comment SMAJ18CA
SURFACE MOUNT TRANSIENT VOLTAGE SUPPRESSORS
footprint SMA/DO-214AC-NP (DO-214-AC/SMA; 2 C-Bend Leads; Body 5.0 x 2.7 mm, inc. leads (LxW))
footprint SMB/DO-214AA-NP (DO-214-AA/SMB; 2 C-Bend Leads; Body 5.3 x 3.6 mm, inc. leads (LxW))
pins: 1, 2

## USB
designator USB?
footprint USB-Micro-SMD (MicroUSB)
footprint USB-Mini-SMD
pins: 1 VBUS, 2 D-, 3 D+, 4 ID, 5 GND

## USB2
designator USB?, comment USB
footprint USB-TYPEB
footprint USB-TYPEA
pins: 1 VBUS, 2 D-, 3 D+, 4 GND

## USB3
designator USB?, comment USB
footprint USB-TYPEC-F-16P-THD (USB3.1 Type-C Receptacle 16P 4THD)
pins: A1/B12 GND, A4/B9 VBUS, A5 CC1, A6 DP1, A7 DN1, A8 SBU1, B1/A12 GND, B4/A9 VBUS, B5 CC2, B6 DP2, B7 DN2, B8 SBU2

## USB3300
designator U?
Hi-Speed USB Host, Device or OTG PHY with ULPI Low Pin Interface
footprint USB3300-QFN32 (QFN, 32-Leads, Body 5.00x5.00mm, Pitch 0.50mm, Thermal Pad 3.30x3.30mm, IPC Medium Density)
part A pins: 3 CPEN "External 5 volt supply enable", 4 VBUS "VBUS pin of the USB cable", 5 ID "ID pin of the USB cable", 7 DP "D+ pin of the USB cable", 8 DM "D- pin of the USB cable", 9 RESET "Optional active high transceiver reset", 10 EXTVBUS "External Vbus Detect", 11 NXT "The PHY asserts NXT to throttle the data", 12 DIR "Controls the direction of the data bus", 13 STP "The Link asserts STP for one clock cycle to stop the data stream currently on the bus", 14 CLKOUT "60MHz reference clock output", 17 DATA7 "8-bit bi-directional data bus", 18 DATA6 "8-bit bi-directional data bus", 19 DATA5 "8-bit bi-directional data bus", 20 DATA4 "8-bit bi-directional data bus", 21 DATA3 "8-bit bi-directional data bus", 22 DATA2 "8-bit bi-directional data bus", 23 DATA1 "8-bit bi-directional data bus", 24 DATA0 "8-bit bi-directional data bus", 27 XO "Crystal pin", 28 XI "Crystal pin"
part B pins: 1 GND "Ground", 2 GND "Ground", 6 VDD3.3 "3.3V Supply", 15 VDD1.8 "1.8V for digital circuitry on chip", 16 VDD3.3 "3.3V Supply", 25 VDD3.3 "3.3V Supply", 26 VDD1.8 "1.8V for digital circuitry on chip", 29 VDDA1.8 "1.8V for analog circuitry on chip", 30 VDD3.3 "Analog 3.3 volt supply", 31 REG_EN "On-Chip 1.8V regulator enable", 32 RBIAS "External 12KΩ +/- 1% bias resistor to ground.", 33 GND "Ground"

## USB-SHIELD
designator USB?, comment USB
footprint USB-Micro-SMD (MicroUSB)
footprint USB-Mini-SMD
pins: 1 VBUS, 2 D-, 3 D+, 4 ID, 5 GND, 6, 7, 8, 9

## VCO
designator Y?, comment VCO 2.4G
压控振荡器
footprint VCO-9X7X2 (9*7*2mm)
pins: 1 VCC, 2 GND, 3 VT, 6 RF

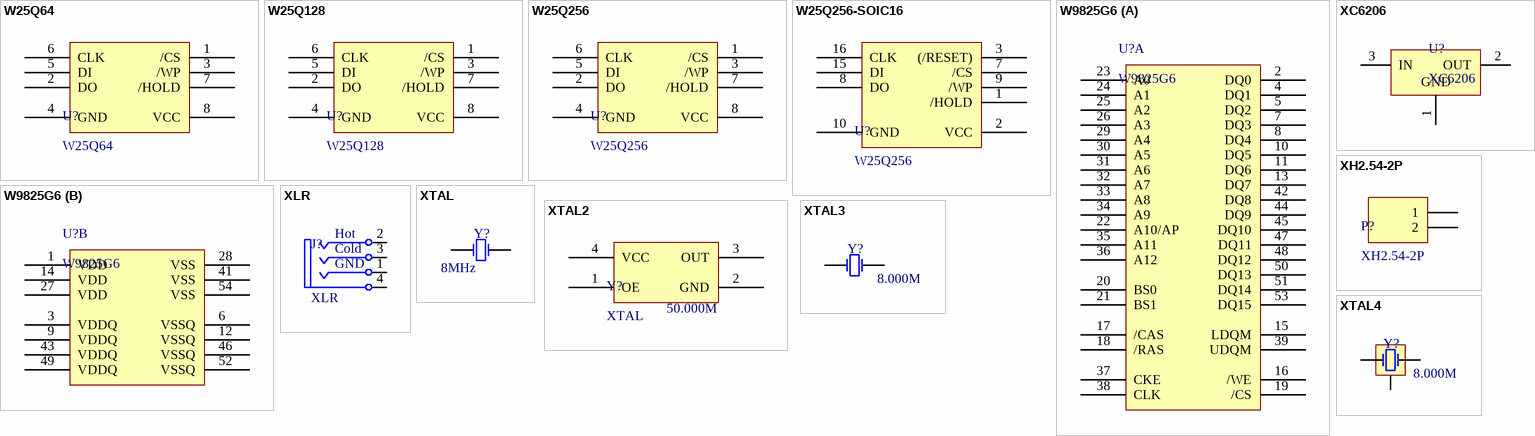
[diagram p10: symbols W25Q64 to XTAL4]

## W25Q64
designator U?
64M-BIT SERIAL FLASH MEMORY WITH DUAL, QUAD SPI
footprint W25Q64-SOIC8 (SOIC, 8-Leads, Body 5.28x5.28mm, Pitch 1.27mm, IPC Medium Density)
pins: 1 /CS, 2 DO, 3 /WP, 4 GND, 5 DI, 6 CLK, 7 /HOLD, 8 VCC

## W25Q128
designator U?
128M-BIT SERIAL FLASH MEMORY WITH DUAL, QUAD SPI
footprint W25Q128-SOIC8 (SOIC, 8-Leads, Body 5.28x5.28mm, Pitch 1.27mm, IPC Medium Density)
pins: 1 /CS, 2 DO, 3 /WP, 4 GND, 5 DI, 6 CLK, 7 /HOLD, 8 VCC

## W25Q256
designator U?
256M-BIT SERIAL FLASH MEMORY WITH DUAL, QUAD SPI
footprint W25Q256-WSON8-8X6 (SON, 8-Leads, Body 6.00x8.00mm, Pitch 1.27mm, Thermal Pad 4.30x3.40mm, IPC Medium Density)
pins: 1 /CS, 2 DO, 3 /WP, 4 GND, 5 DI, 6 CLK, 7 /HOLD, 8 VCC

## W25Q256-SOIC16
designator U?, comment W25Q256
256M-BIT SERIAL FLASH MEMORY WITH DUAL, QUAD SPI
footprint W25Q256-SOIC16 (SOIC, 16-Leads, Body 10.29x7.49mm, Pitch 1.27mm, IPC Medium Density)
pins: 1 /HOLD "Hold Input (Data Input Output 3)", 2 VCC "Power Supply", 3 (/RESET) "Reset Input(Optional)", 7 /CS "Chip Select Input", 8 DO "Data Output (Data Input Output 1)", 9 /WP "Write Protect Input (Data Input Output 2)", 10 GND "Ground", 15 DI "Data Input (Data Input Output 0)", 16 CLK "Serial Clock Input"

## W9825G6
designator U?
4 M * 4 BANKS * 16 BITS SDRAM
footprint W9825G6-TSOP54 (TSOP, 54-Leads, Body 22.22x10.16mm, Pitch 0.80mm, IPC Medium Density)
part A pins: 2 DQ0 "Data Input/Output", 4 DQ1 "Data Input/Output", 5 DQ2 "Data Input/Output", 7 DQ3 "Data Input/Output", 8 DQ4 "Data Input/Output", 10 DQ5 "Data Input/Output", 11 DQ6 "Data Input/Output", 13 DQ7 "Data Input/Output", 15 LDQM "Input/Output Mask", 16 /WE "Write Enable", 17 /CAS "Column Address Strobe", 18 /RAS "Row Address Strobe", 19 /CS "Chip Select", 20 BS0 "Bank Select", 21 BS1 "Bank Select", 22 A10/AP "Address", 23 A0 "Address", 24 A1 "Address", 25 A2 "Address", 26 A3 "Address", 29 A4 "Address", 30 A5 "Address", 31 A6 "Address", 32 A7 "Address", 33 A8 "Address", 34 A9 "Address", 35 A11 "Address", 36 A12 "Address", 37 CKE "Clock Enable", 38 CLK "Clock Inputs", 39 UDQM "Input/Output Mask", 42 DQ8 "Data Input/Output", 44 DQ9 "Data Input/Output", 45 DQ10 "Data Input/Output", 47 DQ11 "Data Input/Output", 48 DQ12 "Data Input/Output", 50 DQ13 "Data Input/Output", 51 DQ14 "Data Input/Output", 53 DQ15 "Data Input/Output"
part B pins: 1 VDD "Power", 3 VDDQ "Power for I/O Buffer", 6 VSSQ "Ground for I/O Buffer", 9 VDDQ "Power for I/O Buffer", 12 VSSQ "Ground for I/O Buffer", 14 VDD "Power", 27 VDD "Power", 28 VSS "Ground", 41 VSS "Ground", 43 VDDQ "Power for I/O Buffer", 46 VSSQ "Ground for I/O Buffer", 49 VDDQ "Power for I/O Buffer", 52 VSSQ "Ground for I/O Buffer", 54 VSS "Ground"

## XC6206
designator U?
Low ESR Cap. Compatible Positive Voltage Regulators
footprint XC6206-SOT23 (SOT23, 3-Leads, Body 2.90x2.80mm, Pitch 0.95mm, IPC Medium Density)
pins: 1 GND, 2 OUT, 3 IN

## XH2.54-2P
designator P?
footprint XH2.54-2P
pins: 1, 2

## XLR
designator J?
XLR Phono Jack, Balanced Analog Audio Connector.; PCB_Layout: Complies with manufacturer's recommendation.; DrillAndSlotSize: Corresponds to nominal value.; Published: 15-Jul-2004; LatestRevisionDate: 15-Jul-2004; LatestRevisionNote: Component Replaced.; DatasheetDocument: 7-Jul-2000; PackageDocument: 7-Jul-2000; PackageReference: 161; Publisher: Altium Limited; ComponentLink1Description: Manufacturer Link; ComponentLink1URL: http://www.mouser.com/kobiconn/
footprint XLR-FL (XLR Phono Jack, Balanced Analog Audio Female Connector.)
footprint XLR-ML (XLR Phono Jack, Balanced Analog Audio Male Connector.)
pins: 1 G "Ground", 2 H "Hot", 3 C "Cold", 4 S "Shield"
text: Hot; Cold; GND

## XTAL
designator Y?  value 8MHz  (hidden comment: XTAL)
Crystal Oscillator
footprint XTAL-3215 (3215贴片晶振)
footprint XTAL-HC-49S (XTAL,2pin)
footprint XTAL-HC-49SMD (XTAL,2pin,smd)
footprint XTAL-HC-49U (XTAL,2pin)
footprint XTAL-HC-49UL (XTAL,2pin)
pins: 1 OSC1, 2 OSC2

## XTAL2
designator Y?, comment XTAL  value 50.000M
有源晶振
footprint XTAL-3225 (4脚3225贴片晶振)
footprint XTAL-5032 (4脚5032贴片晶振)
footprint XTAL-7050 (4脚7050贴片晶振)
pins: 1 OE, 2 GND, 3 OUT, 4 VCC

## XTAL3
designator Y?, comment value 8.000M  (hidden comment: XTAL)
Crystal Oscillator
footprint XTAL-3225 (4脚3225贴片晶振)
footprint XTAL-5032 (4脚5032贴片晶振)
footprint XTAL-7050 (4脚7050贴片晶振)
pins: 1 OSC1, 3 OSC2

## XTAL4
designator Y?, comment value 8.000M  (hidden comment: XTAL)
Crystal Oscillator
footprint XTAL-3225 (4脚3225贴片晶振); pin to pad 2>2+4
footprint XTAL-5032 (4脚5032贴片晶振); pin to pad 2>2+4
footprint XTAL-7050 (4脚7050贴片晶振); pin to pad 2>2+4
pins: 1 OSC1, 2 GND, 3 OSC2